# Altium footprint library MicroUSB.PcbLib: 1 footprints
Each footprint in its own frame and in the unit in brackets; x right, y up, seen from the top. Pads: shape width x height; smd on the part's side, far side on the other; paste and mask are expansions set on the pad; w line width, h text height; cw(c..) or ccw(c..) is an arc to the next point about the centre after c.
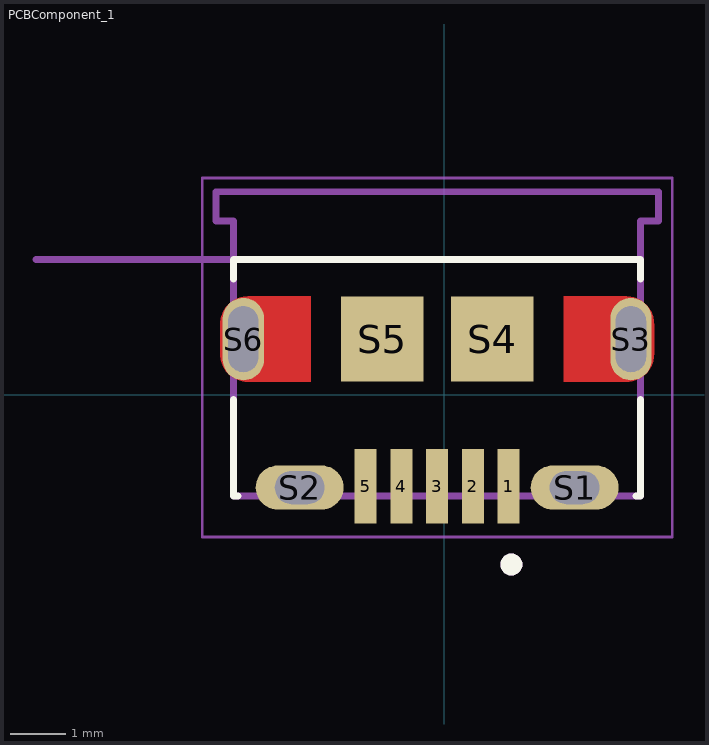
[diagram p0: the footprint, top view; thin cyan lines are the x and y axes]

## PCBComponent_1 [mm]
pads (11):
  rect 0.4x1.35 smd: 1(1.173,-1.659) 2(0.523,-1.659) 3(-0.127,-1.659) 4(-0.777,-1.659) 5(-1.427,-1.659)
  oval 1.6x0.8 hole 0.6 slot 0.9 at 0 deg: S1(2.373,-1.684) S2(-2.627,-1.684)
  oval 0.75x1.5 hole 0.55 slot 1.2 at 90 deg: S3(3.398,1.016) S6(-3.652,1.016)
  rect 1.5x1.55 smd: S4(0.873,1.016) S5(-1.127,1.016)
Top Layer:
  region: -3.598,0.242 -3.624,0.244 -3.65,0.247 -3.676,0.252 -3.701,0.258 -3.727,0.265 -3.751,0.274 -3.775,0.284 -3.799,0.295 -3.822,0.308 -3.844,0.322 -3.866,0.336 -3.887,0.352 -3.907,0.369 -3.926,0.387 -3.944,0.406 -3.961,0.426 -3.977,0.447 -3.991,0.469 -4.005,0.491 -4.018,0.514 -4.029,0.538 -4.039,0.562 -4.048,0.586 -4.055,0.612 -4.061,0.637 -4.066,0.663 -4.069,0.689 -4.071,0.715 -4.072,0.741 -4.072,1.291 -4.071,1.317 -4.069,1.343 -4.066,1.369 -4.061,1.395 -4.055,1.42 -4.048,1.446 -4.039,1.47 -4.029,1.494 -4.018,1.518 -4.005,1.541 -3.991,1.563 -3.977,1.585 -3.961,1.606 -3.944,1.626 -3.926,1.645 -3.907,1.663 -3.887,1.68 -3.866,1.696 -3.844,1.71 -3.822,1.724 -3.799,1.737 -3.775,1.748 -3.751,1.758 -3.727,1.767 -3.701,1.774 -3.676,1.78 -3.65,1.785 -3.624,1.788 -3.598,1.79 -3.572,1.791 -2.427,1.791 -2.427,0.241 -3.572,0.241
  region: 2.173,1.791 3.318,1.791 3.344,1.79 3.37,1.788 3.396,1.785 3.422,1.78 3.447,1.774 3.473,1.767 3.497,1.758 3.521,1.748 3.545,1.737 3.568,1.724 3.59,1.71 3.612,1.696 3.633,1.68 3.653,1.663 3.672,1.645 3.69,1.626 3.707,1.606 3.723,1.585 3.737,1.563 3.751,1.541 3.764,1.518 3.775,1.494 3.785,1.47 3.794,1.446 3.801,1.42 3.807,1.395 3.812,1.369 3.815,1.343 3.817,1.317 3.818,1.291 3.818,0.741 3.817,0.715 3.815,0.689 3.812,0.663 3.807,0.637 3.801,0.612 3.794,0.586 3.785,0.562 3.775,0.538 3.764,0.514 3.751,0.491 3.737,0.469 3.723,0.447 3.707,0.426 3.69,0.406 3.672,0.387 3.653,0.369 3.633,0.352 3.612,0.336 3.59,0.322 3.568,0.308 3.545,0.295 3.521,0.284 3.497,0.274 3.473,0.265 3.447,0.258 3.422,0.252 3.396,0.247 3.37,0.244 3.344,0.242 3.318,0.241 2.173,0.241
Top Overlay:
  circle w0.2: c1.223,-3.084 r0.1
  lines w0.127: -3.827,-0.079 -3.827,-1.834 -3.747,-1.834 ; -3.827,2.111 -3.827,2.466 3.573,2.466 3.573,2.111 ; 3.493,-1.834 3.573,-1.834 3.573,-0.079
Top Paste:
  region: -3.598,0.242 -3.624,0.244 -3.65,0.247 -3.676,0.252 -3.701,0.258 -3.727,0.265 -3.751,0.274 -3.775,0.284 -3.799,0.295 -3.822,0.308 -3.844,0.322 -3.866,0.336 -3.887,0.352 -3.907,0.369 -3.926,0.387 -3.944,0.406 -3.961,0.426 -3.977,0.447 -3.991,0.469 -4.005,0.491 -4.018,0.514 -4.029,0.538 -4.039,0.562 -4.048,0.586 -4.055,0.612 -4.061,0.637 -4.066,0.663 -4.069,0.689 -4.071,0.715 -4.072,0.741 -4.072,1.291 -4.071,1.317 -4.069,1.343 -4.066,1.369 -4.061,1.395 -4.055,1.42 -4.048,1.446 -4.039,1.47 -4.029,1.494 -4.018,1.518 -4.005,1.541 -3.991,1.563 -3.977,1.585 -3.961,1.606 -3.944,1.626 -3.926,1.645 -3.907,1.663 -3.887,1.68 -3.866,1.696 -3.844,1.71 -3.822,1.724 -3.799,1.737 -3.775,1.748 -3.751,1.758 -3.727,1.767 -3.701,1.774 -3.676,1.78 -3.65,1.785 -3.624,1.788 -3.598,1.79 -3.572,1.791 -2.427,1.791 -2.427,0.241 -3.572,0.241
  region: 2.173,1.791 3.318,1.791 3.344,1.79 3.37,1.788 3.396,1.785 3.422,1.78 3.447,1.774 3.473,1.767 3.497,1.758 3.521,1.748 3.545,1.737 3.568,1.724 3.59,1.71 3.612,1.696 3.633,1.68 3.653,1.663 3.672,1.645 3.69,1.626 3.707,1.606 3.723,1.585 3.737,1.563 3.751,1.541 3.764,1.518 3.775,1.494 3.785,1.47 3.794,1.446 3.801,1.42 3.807,1.395 3.812,1.369 3.815,1.343 3.817,1.317 3.818,1.291 3.818,0.741 3.817,0.715 3.815,0.689 3.812,0.663 3.807,0.637 3.801,0.612 3.794,0.586 3.785,0.562 3.775,0.538 3.764,0.514 3.751,0.491 3.737,0.469 3.723,0.447 3.707,0.426 3.69,0.406 3.672,0.387 3.653,0.369 3.633,0.352 3.612,0.336 3.59,0.322 3.568,0.308 3.545,0.295 3.521,0.284 3.497,0.274 3.473,0.265 3.447,0.258 3.422,0.252 3.396,0.247 3.37,0.244 3.344,0.242 3.318,0.241 2.173,0.241
Top Solder:
  region: -3.698,0.142 -3.724,0.144 -3.75,0.147 -3.776,0.152 -3.801,0.158 -3.827,0.165 -3.851,0.174 -3.875,0.184 -3.899,0.195 -3.922,0.208 -3.944,0.222 -3.966,0.236 -3.987,0.252 -4.007,0.269 -4.026,0.287 -4.044,0.306 -4.061,0.326 -4.077,0.347 -4.091,0.369 -4.105,0.391 -4.118,0.414 -4.129,0.438 -4.139,0.462 -4.148,0.486 -4.155,0.512 -4.161,0.537 -4.166,0.563 -4.169,0.589 -4.171,0.615 -4.172,0.641 -4.172,1.391 -4.171,1.417 -4.169,1.443 -4.166,1.469 -4.161,1.495 -4.155,1.52 -4.148,1.546 -4.139,1.57 -4.129,1.594 -4.118,1.618 -4.105,1.641 -4.091,1.663 -4.077,1.685 -4.061,1.706 -4.044,1.726 -4.026,1.745 -4.007,1.763 -3.987,1.78 -3.966,1.796 -3.944,1.81 -3.922,1.824 -3.899,1.837 -3.875,1.848 -3.851,1.858 -3.827,1.867 -3.801,1.874 -3.776,1.88 -3.75,1.885 -3.724,1.888 -3.698,1.89 -3.672,1.891 -2.327,1.891 -2.327,0.141 -3.672,0.141
  region: 2.073,1.891 3.418,1.891 3.444,1.89 3.47,1.888 3.496,1.885 3.522,1.88 3.547,1.874 3.573,1.867 3.597,1.858 3.621,1.848 3.645,1.837 3.668,1.824 3.69,1.81 3.712,1.796 3.733,1.78 3.753,1.763 3.772,1.745 3.79,1.726 3.807,1.706 3.823,1.685 3.837,1.663 3.851,1.641 3.864,1.618 3.875,1.594 3.885,1.57 3.894,1.546 3.901,1.52 3.907,1.495 3.912,1.469 3.915,1.443 3.917,1.417 3.918,1.391 3.918,0.641 3.917,0.615 3.915,0.589 3.912,0.563 3.907,0.537 3.901,0.512 3.894,0.486 3.885,0.462 3.875,0.438 3.864,0.414 3.851,0.391 3.837,0.369 3.823,0.347 3.807,0.326 3.79,0.306 3.772,0.287 3.753,0.269 3.733,0.252 3.712,0.236 3.69,0.222 3.668,0.208 3.645,0.195 3.621,0.184 3.597,0.174 3.573,0.165 3.547,0.158 3.522,0.152 3.496,0.147 3.47,0.144 3.444,0.142 3.418,0.141 2.073,0.141
Mechanical 13:
  circle w0.2: c1.223,-3.084 r0.1
  lines w0.127: -7.427,2.466 -3.827,2.466 ; -3.827,2.466 -3.827,-1.834 3.573,-1.834 3.573,2.466 ; -3.827,2.466 -3.827,3.166 -4.152,3.166 -4.152,3.696 3.898,3.696 3.898,3.166 3.573,3.166 3.573,2.466 ; -3.827,2.466 3.573,2.466
  text "PCB END" at -4.677,2.316 h0.5
Mechanical 15:
  lines w0.05: -4.402,-2.584 4.148,-2.584 4.148,3.946 -4.402,3.946 -4.402,-2.584
3D body "step_temp.STEP": height 2.67, standoff -0.6, extent -4.152,-1.834 3.898,3.696